# EAGLE library part EXB-A10P391J (library R-Panasonic-EXB_A10PXXXJ)
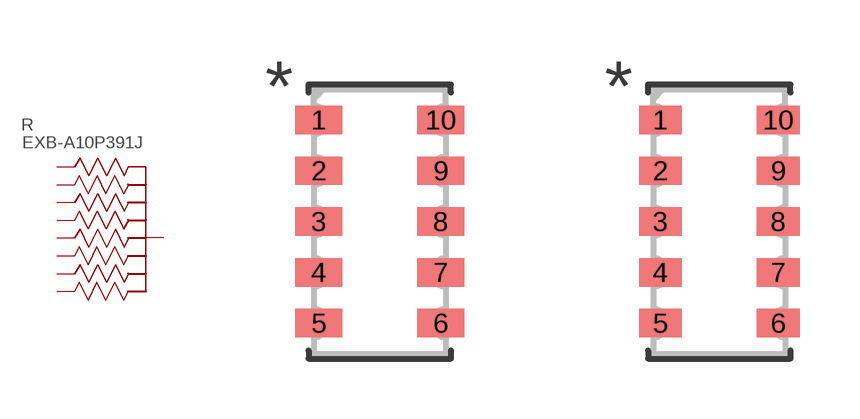
[diagram p0: symbol with the pads of ARRAY_EXBA; footprints ARRAY_EXBA, ARRAY_EXBA-L]

Designator prefix R

## EXB-A10P391J (MANUFACTURER_PART_NUMBER: EXBA10P391J; VENDOR: Panasonic)  [ARRAY_EXBA]
1  11  pas
2  22  pas
3  33  pas
4  44  pas
5  55  pas
6  66  pas
7  77  pas
8  88  pas
9  99  pas
10  55  pas

## EXB-A10P391JC_ARRAY_EXBA-L (MANUFACTURER_PART_NUMBER: EXBA10P391J; VENDOR: Panasonic)  [ARRAY_EXBA-L]
Pads as for ARRAY_EXBA

## EXB-A10P391JC_ARRAY_EXBA-M (MFR: Panasonic Electronic Components; MPN_GENERIC: EXB-A10PXXXJ)  [ARRAY_EXBA-M]
Pads as for ARRAY_EXBA

## Footprint ARRAY_EXBA (pad centres in mm)
smd 1.168 x 0.711: 1 -1.524,2.54; 2 -1.524,1.27; 3 -1.524,0; 4 -1.524,-1.27; 5 -1.524,-2.54; 6 1.524,-2.54; 7 1.524,-1.27; 8 1.524,0; 9 1.524,1.27; 10 1.524,2.54

## Footprint ARRAY_EXBA-L (pad centres in mm)
smd 1.067 x 0.711: 1 -1.473,2.54; 2 -1.473,1.27; 3 -1.473,0; 4 -1.473,-1.27; 5 -1.473,-2.54; 6 1.473,-2.54; 7 1.473,-1.27; 8 1.473,0; 9 1.473,1.27; 10 1.473,2.54

## Footprint ARRAY_EXBA-M (pad centres in mm)
smd 1.27 x 0.711: 1 -1.575,2.54; 2 -1.575,1.27; 3 -1.575,0; 4 -1.575,-1.27; 5 -1.575,-2.54; 6 1.575,-2.54; 7 1.575,-1.27; 8 1.575,0; 9 1.575,1.27; 10 1.575,2.54